# EAGLE library part CY7C6801*A-128 (library cypress)
EZ-USB FX2LP (TM) USB Microcontroller Source: http://www.cypress.com .. cy7c68013a_5.pdf
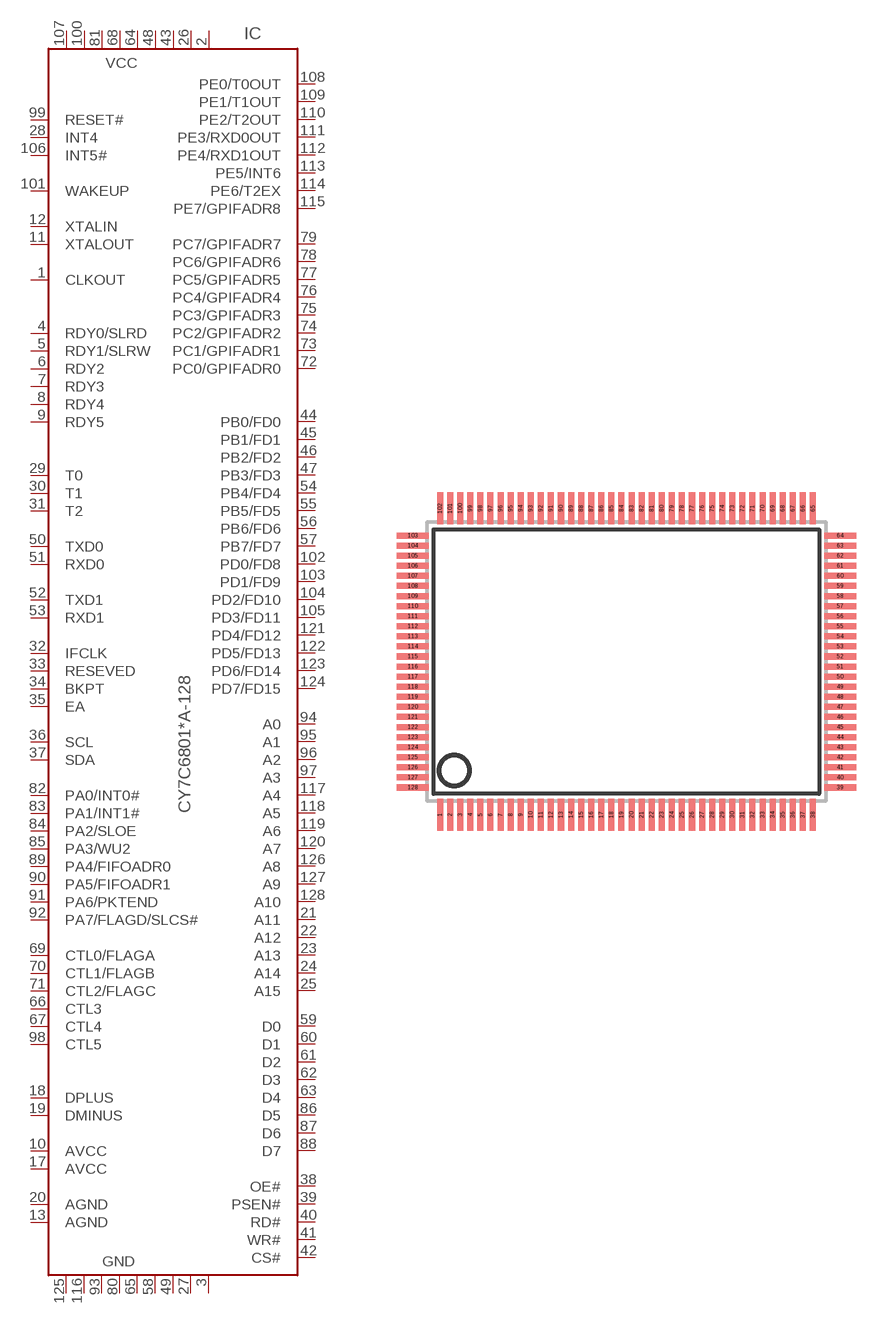
[diagram p7: symbol with the pads of SQFP-R-14X20-128; footprint SQFP-R-14X20-128]

Designator prefix IC

## CY7C68013A-128AXC, CY7C68014A-128AXC  [SQFP-R-14X20-128]
1  CLKOUT  in
2  VCC  in
3  GND  in
4  RDY0/SLRD  in
5  RDY1/SLRW  in
6  RDY2  in
7  RDY3  in
8  RDY4  in
9  RDY5  in
10  AVCC  in
11  XTALOUT  in
12  XTALIN  in
13  AGND  in
17  AVCC  in
18  DPLUS
19  DMINUS
20  AGND  in
21  A11  out
22  A12  out
23  A13  out
24  A14  out
25  A15  out
26  VCC  in
27  GND  in
28  INT4  out
29  T0  out
30  T1  out
31  T2  out
32  IFCLK
33  RESEVED  in
34  BKPT  out
35  EA  in
36  SCL  out
37  SDA
38  OE#  out
39  PSEN#  out
40  RD#  out
41  WR#  out
42  CS#  out
43  VCC  in
44  PB0/FD0
45  PB1/FD1
46  PB2/FD2
47  PB3/FD3
48  VCC  in
49  GND  in
50  TXD0  in
51  RXD0  out
52  TXD1  in
53  RXD1  out
54  PB4/FD4
55  PB5/FD5
56  PB6/FD6
57  PB7/FD7
58  GND  in
59  D0  in
60  D1  in
61  D2  in
62  D3  in
63  D4  in
64  VCC  in
65  GND  in
66  CTL3  in
67  CTL4  in
68  VCC  in
69  CTL0/FLAGA  out
70  CTL1/FLAGB  out
71  CTL2/FLAGC  out
72  PC0/GPIFADR0
73  PC1/GPIFADR1
74  PC2/GPIFADR2
75  PC3/GPIFADR3
76  PC4/GPIFADR4
77  PC5/GPIFADR5
78  PC6/GPIFADR6
79  PC7/GPIFADR7
80  GND  in
81  VCC  in
82  PA0/INT0#
83  PA1/INT1#
84  PA2/SLOE
85  PA3/WU2
86  D5  in
87  D6  in
88  D7  in
89  PA4/FIFOADR0
90  PA5/FIFOADR1
91  PA6/PKTEND
92  PA7/FLAGD/SLCS#
93  GND  in
94  A0  out
95  A1  out
96  A2  out
97  A3  out
98  CTL5
99  RESET#
100  VCC  in
101  WAKEUP  in
102  PD0/FD8
103  PD1/FD9
104  PD2/FD10
105  PD3/FD11
106  INT5#  out
107  VCC  in
108  PE0/T0OUT
109  PE1/T1OUT
110  PE2/T2OUT
111  PE3/RXD0OUT
112  PE4/RXD1OUT
113  PE5/INT6
114  PE6/T2EX
115  PE7/GPIFADR8
116  GND  in
117  A4  out
118  A5  out
119  A6  out
120  A7  out
121  PD4/FD12
122  PD5/FD13
123  PD6/FD14
124  PD7/FD15
125  GND  in
126  A8  out
127  A9  out
128  A10  out

## CY7C68013A-128AXI  [SQFP-R-14X20-128]
Pads as for SQFP-R-14X20-128

## Footprint SQFP-R-14X20-128 (pad centres in mm)
QFP128 shrink quad flat pack, rectangle
smd 0.3 x 1.6: 1 -9.25,-7.6; 2 -8.75,-7.6; 3 -8.25,-7.6; 4 -7.75,-7.6; 5 -7.25,-7.6; 6 -6.75,-7.6; 7 -6.25,-7.6; 8 -5.75,-7.6; 9 -5.25,-7.6; 10 -4.75,-7.6; 11 -4.25,-7.6; 12 -3.75,-7.6; 13 -3.25,-7.6; 14 -2.75,-7.6; 15 -2.25,-7.6; 16 -1.75,-7.6; 17 -1.25,-7.6; 18 -0.75,-7.6; 19 -0.25,-7.6; 20 0.25,-7.6; 21 0.75,-7.6; 22 1.25,-7.6; 23 1.75,-7.6; 24 2.25,-7.6; 25 2.75,-7.6; 26 3.25,-7.6; 27 3.75,-7.6; 28 4.25,-7.6; 29 4.75,-7.6; 30 5.25,-7.6; 31 5.75,-7.6; 32 6.25,-7.6; 33 6.75,-7.6; 34 7.25,-7.6; 35 7.75,-7.6; 36 8.25,-7.6; 37 8.75,-7.6; 38 9.25,-7.6; 65 9.25,7.6; 66 8.75,7.6; 67 8.25,7.6; 68 7.75,7.6; 69 7.25,7.6; 70 6.75,7.6; 71 6.25,7.6; 72 5.75,7.6; 73 5.25,7.6; 74 4.75,7.6; 75 4.25,7.6; 76 3.75,7.6; 77 3.25,7.6; 78 2.75,7.6; 79 2.25,7.6; 80 1.75,7.6; 81 1.25,7.6; 82 0.75,7.6; 83 0.25,7.6; 84 -0.25,7.6; 85 -0.75,7.6; 86 -1.25,7.6; 87 -1.75,7.6; 88 -2.25,7.6; 89 -2.75,7.6; 90 -3.25,7.6; 91 -3.75,7.6; 92 -4.25,7.6; 93 -4.75,7.6; 94 -5.25,7.6; 95 -5.75,7.6; 96 -6.25,7.6; 97 -6.75,7.6; 98 -7.25,7.6; 99 -7.75,7.6; 100 -8.25,7.6; 101 -8.75,7.6; 102 -9.25,7.6
smd 1.6 x 0.3: 39 10.6,-6.25; 40 10.6,-5.75; 41 10.6,-5.25; 42 10.6,-4.75; 43 10.6,-4.25; 44 10.6,-3.75; 45 10.6,-3.25; 46 10.6,-2.75; 47 10.6,-2.25; 48 10.6,-1.75; 49 10.6,-1.25; 50 10.6,-0.75; 51 10.6,-0.25; 52 10.6,0.25; 53 10.6,0.75; 54 10.6,1.25; 55 10.6,1.75; 56 10.6,2.25; 57 10.6,2.75; 58 10.6,3.25; 59 10.6,3.75; 60 10.6,4.25; 61 10.6,4.75; 62 10.6,5.25; 63 10.6,5.75; 64 10.6,6.25; 103 -10.6,6.25; 104 -10.6,5.75; 105 -10.6,5.25; 106 -10.6,4.75; 107 -10.6,4.25; 108 -10.6,3.75; 109 -10.6,3.25; 110 -10.6,2.75; 111 -10.6,2.25; 112 -10.6,1.75; 113 -10.6,1.25; 114 -10.6,0.75; 115 -10.6,0.25; 116 -10.6,-0.25; 117 -10.6,-0.75; 118 -10.6,-1.25; 119 -10.6,-1.75; 120 -10.6,-2.25; 121 -10.6,-2.75; 122 -10.6,-3.25; 123 -10.6,-3.75; 124 -10.6,-4.25; 125 -10.6,-4.75; 126 -10.6,-5.25; 127 -10.6,-5.75; 128 -10.6,-6.25